# EAGLE library part ARTEMIS_X1 (library Module-Pads)
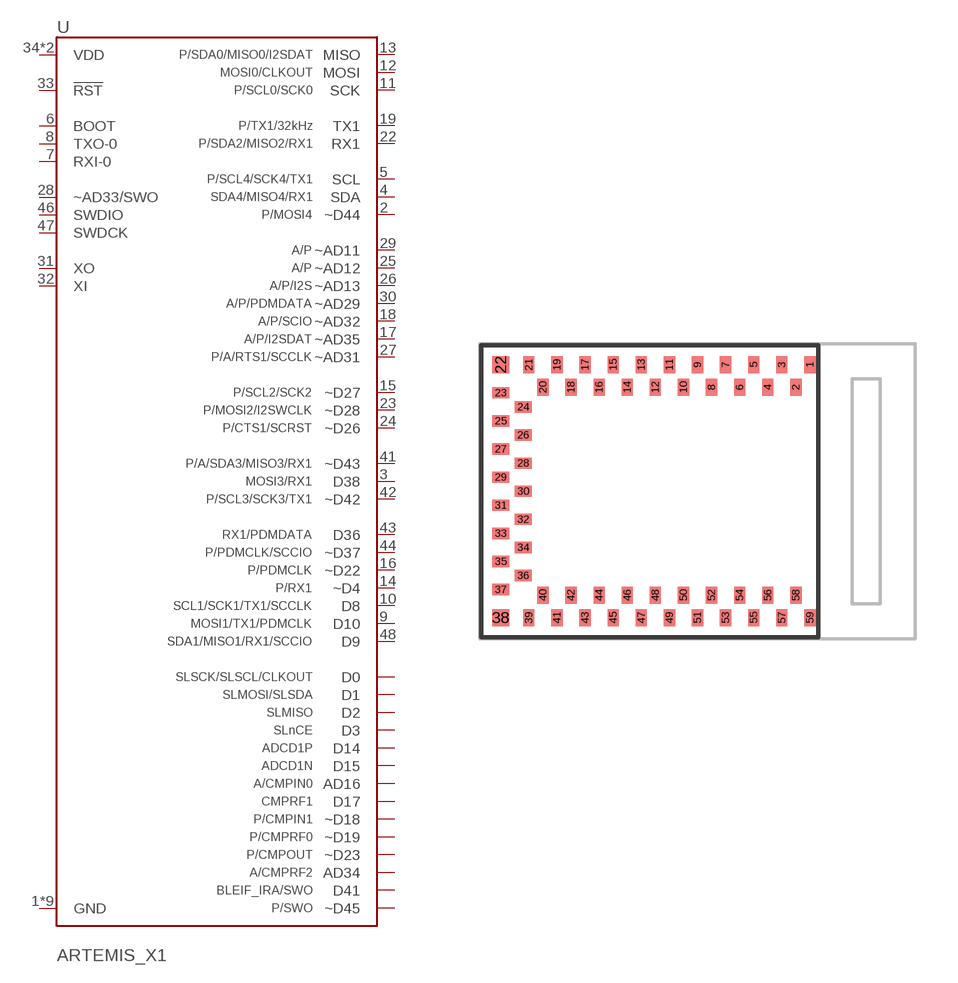
[diagram p0: symbol with the pads of ARTEMIS; footprint ARTEMIS]

Designator prefix U

## ARTEMIS_X1 (PROD_ID: SUB-14359)  [ARTEMIS]
1  GND
2  ~D44
3  D38
4  SDA
5  SCL
6  BOOT
7  RXI-0
8  TXO-0
9  D10
10  D8
11  SCK
12  MOSI
13  MISO
14  ~D4
15  ~D27
16  ~D22
17  ~AD35
18  ~AD32
19  TX1
20  GND
21  GND
22  RX1
23  ~D28
24  ~D26
25  ~AD12
26  ~AD13
27  ~AD31
28  ~AD33/SWO
29  ~AD11
30  ~AD29
31  XO
32  XI
33  !RST
34  VDD
35  VDD
36  GND
37  GND
38  GND
39  GND
40  GND
41  ~D43
42  ~D42
43  D36
44  ~D37
45  GND
46  SWDIO
47  SWDCK
48  D9

## Footprint ARTEMIS (pad centres in mm)
smd 0.4 x 0.6: 1 4,4.5; 2 3.5,3.7; 3 3,4.5; 4 2.5,3.7; 5 2,4.5; 6 1.5,3.7; 7 1,4.5; 8 0.5,3.7; 9 0,4.5; 10 -0.5,3.7; 11 -1,4.5; 12 -1.5,3.7; 13 -2,4.5; 14 -2.5,3.7; 15 -3,4.5; 16 -3.5,3.7; 17 -4,4.5; 18 -4.5,3.7; 19 -5,4.5; 20 -5.5,3.7; 21 -6,4.5; 39 -6,-4.5; 40 -5.5,-3.7; 41 -5,-4.5; 42 -4.5,-3.7; 43 -4,-4.5; 44 -3.5,-3.7; 45 -3,-4.5; 46 -2.5,-3.7; 47 -2,-4.5; 48 -1.5,-3.7; 49 -1,-4.5; 50 -0.5,-3.7; 51 0,-4.5; 52 0.5,-3.7; 53 1,-4.5; 54 1.5,-3.7; 55 2,-4.5; 56 2.5,-3.7; 57 3,-4.5; 58 3.5,-3.7; 59 4,-4.5
smd 0.6 x 0.6: 22 -7,4.5; 38 -7,-4.5
smd 0.6 x 0.4: 23 -7,3.5; 24 -6.2,3; 25 -7,2.5; 26 -6.2,2; 27 -7,1.5; 28 -6.2,1; 29 -7,0.5; 30 -6.2,0; 31 -7,-0.5; 32 -6.2,-1; 33 -7,-1.5; 34 -6.2,-2; 35 -7,-2.5; 36 -6.2,-3; 37 -7,-3.5